# Altium schematic symbol library kmilo17pet-Maxim_Sensors.SchLib: 1172 symbols (part 17 of 61)
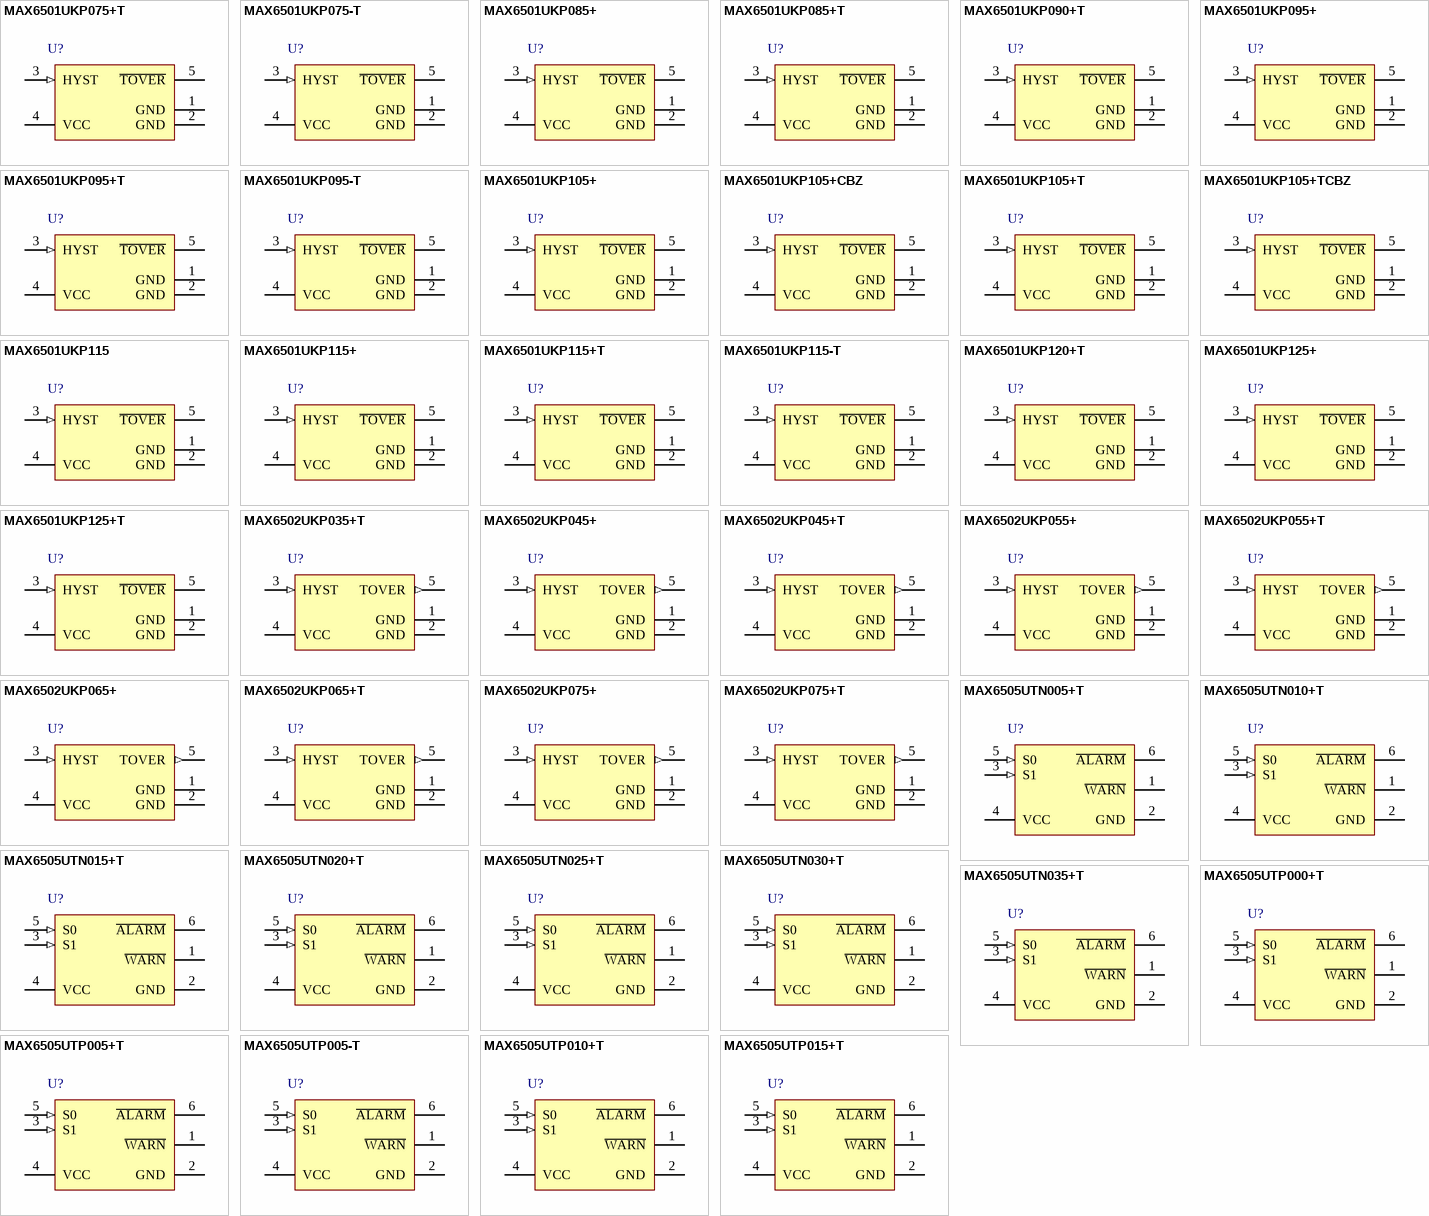
[diagram p49: symbols MAX6501UKP075+T to MAX6505UTP015+T]

## MAX6505UTN015+T
designator U?
Dual Trip Temperature Switch, -40 to 125 degC, 6-Pin SOT23 (U6SN+1), Pb-Free, Tape and Reel; Generic Part Number: MAX6505; PartNumber: MAX6505UTN015+T; Functions: Temperature Switch/Temperature Comparator; Interface: Logic; DatasheetVersion: Rev. 1; PackageVersion: Rev. N, 08/2012; PackageReference: U6SN+1; PackageDescription: 6-Pin Small-Outline Transistor Package, Body 1.625 x 2.9 mm, Pitch 0.95 mm; Supplier 1: Digi-Key; Supplier Part Number 1: MAX6505UTN015+T-ND; Supplier 2: Mouser; Supplier Part Number 2: 700-MAX6505UTN015T; Packing: Tape and Reel; Mounting Technology: Surface Mount; Code_JEDEC: MO-178; ComponentLink1Description: Manufacturer URL; ComponentLink1URL: http://www.maximintegrated.com/; ComponentLink2Description: Datasheet; ComponentLink2URL: http://datasheets.maximintegrated.com/en/ds/MAX6505; ComponentLink3Description: Package Specification; ComponentLink3URL: http://pdfserv.maximintegrated.com/package_dwgs/21-0058.PDF
footprint MAXM-U6SN+1_N (SOT23, 6-Leads, Body 2.9x1.625mm, Pitch 0.95mm, IPC Medium Density)
footprint MAXM-U6SN+1_L (SOT23, 6-Leads, Body 2.9x1.625mm, Pitch 0.95mm, IPC High Density)
footprint MAXM-U6SN+1_M (SOT23, 6-Leads, Body 2.9x1.625mm, Pitch 0.95mm, IPC Low Density)
pins: 1 ~{WARN} (oc) "Open-Drain Active-Low Warning Output. W\A\R\N\ goes low when the die temperature exceeds TWARN = TALARM - deltaTAW.", 2 GND (power) "Ground", 3 S1 (in) "Delta Temperature Select Input. Connect to VCC or GND to select the difference between TALARM and TWARN (Table 1 or see Electrical Characteristics).", 4 VCC (power) "Supply Voltage Input. Bypass VCC to GND with a 0.1uF ceramic capacitor.", 5 S0 (in) "Delta Temperature Select Input. Connect to VCC or GND to select the difference between TALARM and TWARN (Table 1 or see Electrical Characteristics).", 6 ~{ALARM} (oc) "Open-Drain Active-Low Alarm Output. A\L\A\R\M\ goes low when the die temperature exceeds the factory-set value of TALARM."

## MAX6505UTN020+T
designator U?
Dual Trip Temperature Switch, -40 to 125 degC, 6-Pin SOT23 (U6SN+1), Pb-Free, Tape and Reel; Generic Part Number: MAX6505; PartNumber: MAX6505UTN020+T; Functions: Temperature Switch/Temperature Comparator; Interface: Logic; DatasheetVersion: Rev. 1; PackageVersion: Rev. N, 08/2012; PackageReference: U6SN+1; PackageDescription: 6-Pin Small-Outline Transistor Package, Body 1.625 x 2.9 mm, Pitch 0.95 mm; Supplier 1: Digi-Key; Supplier Part Number 1: MAX6505UTN020+T-ND; Supplier 2: Mouser; Supplier Part Number 2: 700-MAX6505UTN020T; Packing: Tape and Reel; Mounting Technology: Surface Mount; Code_JEDEC: MO-178; ComponentLink1Description: Manufacturer URL; ComponentLink1URL: http://www.maximintegrated.com/; ComponentLink2Description: Datasheet; ComponentLink2URL: http://datasheets.maximintegrated.com/en/ds/MAX6505; ComponentLink3Description: Package Specification; ComponentLink3URL: http://pdfserv.maximintegrated.com/package_dwgs/21-0058.PDF
footprint MAXM-U6SN+1_N (SOT23, 6-Leads, Body 2.9x1.625mm, Pitch 0.95mm, IPC Medium Density)
footprint MAXM-U6SN+1_L (SOT23, 6-Leads, Body 2.9x1.625mm, Pitch 0.95mm, IPC High Density)
footprint MAXM-U6SN+1_M (SOT23, 6-Leads, Body 2.9x1.625mm, Pitch 0.95mm, IPC Low Density)
pins: 1 ~{WARN} (oc) "Open-Drain Active-Low Warning Output. W\A\R\N\ goes low when the die temperature exceeds TWARN = TALARM - deltaTAW.", 2 GND (power) "Ground", 3 S1 (in) "Delta Temperature Select Input. Connect to VCC or GND to select the difference between TALARM and TWARN (Table 1 or see Electrical Characteristics).", 4 VCC (power) "Supply Voltage Input. Bypass VCC to GND with a 0.1uF ceramic capacitor.", 5 S0 (in) "Delta Temperature Select Input. Connect to VCC or GND to select the difference between TALARM and TWARN (Table 1 or see Electrical Characteristics).", 6 ~{ALARM} (oc) "Open-Drain Active-Low Alarm Output. A\L\A\R\M\ goes low when the die temperature exceeds the factory-set value of TALARM."

## MAX6505UTN025+T
designator U?
Dual Trip Temperature Switch, -40 to 125 degC, 6-Pin SOT23 (U6SN+1), Pb-Free, Tape and Reel; Generic Part Number: MAX6505; PartNumber: MAX6505UTN025+T; Functions: Temperature Switch/Temperature Comparator; Interface: Logic; DatasheetVersion: Rev. 1; PackageVersion: Rev. N, 08/2012; PackageReference: U6SN+1; PackageDescription: 6-Pin Small-Outline Transistor Package, Body 1.625 x 2.9 mm, Pitch 0.95 mm; Supplier 1: Digi-Key; Supplier Part Number 1: MAX6505UTN025+T-ND; Supplier 2: Mouser; Supplier Part Number 2: 700-MAX6505UTN025T; Packing: Tape and Reel; Mounting Technology: Surface Mount; Code_JEDEC: MO-178; ComponentLink1Description: Manufacturer URL; ComponentLink1URL: http://www.maximintegrated.com/; ComponentLink2Description: Datasheet; ComponentLink2URL: http://datasheets.maximintegrated.com/en/ds/MAX6505; ComponentLink3Description: Package Specification; ComponentLink3URL: http://pdfserv.maximintegrated.com/package_dwgs/21-0058.PDF
footprint MAXM-U6SN+1_N (SOT23, 6-Leads, Body 2.9x1.625mm, Pitch 0.95mm, IPC Medium Density)
footprint MAXM-U6SN+1_L (SOT23, 6-Leads, Body 2.9x1.625mm, Pitch 0.95mm, IPC High Density)
footprint MAXM-U6SN+1_M (SOT23, 6-Leads, Body 2.9x1.625mm, Pitch 0.95mm, IPC Low Density)
pins: 1 ~{WARN} (oc) "Open-Drain Active-Low Warning Output. W\A\R\N\ goes low when the die temperature exceeds TWARN = TALARM - deltaTAW.", 2 GND (power) "Ground", 3 S1 (in) "Delta Temperature Select Input. Connect to VCC or GND to select the difference between TALARM and TWARN (Table 1 or see Electrical Characteristics).", 4 VCC (power) "Supply Voltage Input. Bypass VCC to GND with a 0.1uF ceramic capacitor.", 5 S0 (in) "Delta Temperature Select Input. Connect to VCC or GND to select the difference between TALARM and TWARN (Table 1 or see Electrical Characteristics).", 6 ~{ALARM} (oc) "Open-Drain Active-Low Alarm Output. A\L\A\R\M\ goes low when the die temperature exceeds the factory-set value of TALARM."

## MAX6505UTN030+T
designator U?
Dual Trip Temperature Switch, -40 to 125 degC, 6-Pin SOT23 (U6SN+1), Pb-Free, Tape and Reel; Generic Part Number: MAX6505; PartNumber: MAX6505UTN030+T; Functions: Temperature Switch/Temperature Comparator; Interface: Logic; DatasheetVersion: Rev. 1; PackageVersion: Rev. N, 08/2012; PackageReference: U6SN+1; PackageDescription: 6-Pin Small-Outline Transistor Package, Body 1.625 x 2.9 mm, Pitch 0.95 mm; Supplier 1: Digi-Key; Supplier Part Number 1: MAX6505UTN030+T-ND; Supplier 2: Mouser; Supplier Part Number 2: 700-MAX6505UTN030T; Packing: Tape and Reel; Mounting Technology: Surface Mount; Code_JEDEC: MO-178; ComponentLink1Description: Manufacturer URL; ComponentLink1URL: http://www.maximintegrated.com/; ComponentLink2Description: Datasheet; ComponentLink2URL: http://datasheets.maximintegrated.com/en/ds/MAX6505; ComponentLink3Description: Package Specification; ComponentLink3URL: http://pdfserv.maximintegrated.com/package_dwgs/21-0058.PDF
footprint MAXM-U6SN+1_N (SOT23, 6-Leads, Body 2.9x1.625mm, Pitch 0.95mm, IPC Medium Density)
footprint MAXM-U6SN+1_L (SOT23, 6-Leads, Body 2.9x1.625mm, Pitch 0.95mm, IPC High Density)
footprint MAXM-U6SN+1_M (SOT23, 6-Leads, Body 2.9x1.625mm, Pitch 0.95mm, IPC Low Density)
pins: 1 ~{WARN} (oc) "Open-Drain Active-Low Warning Output. W\A\R\N\ goes low when the die temperature exceeds TWARN = TALARM - deltaTAW.", 2 GND (power) "Ground", 3 S1 (in) "Delta Temperature Select Input. Connect to VCC or GND to select the difference between TALARM and TWARN (Table 1 or see Electrical Characteristics).", 4 VCC (power) "Supply Voltage Input. Bypass VCC to GND with a 0.1uF ceramic capacitor.", 5 S0 (in) "Delta Temperature Select Input. Connect to VCC or GND to select the difference between TALARM and TWARN (Table 1 or see Electrical Characteristics).", 6 ~{ALARM} (oc) "Open-Drain Active-Low Alarm Output. A\L\A\R\M\ goes low when the die temperature exceeds the factory-set value of TALARM."

## MAX6505UTN035+T
designator U?
Dual Trip Temperature Switch, -40 to 125 degC, 6-Pin SOT23 (U6SN+1), Pb-Free, Tape and Reel; Generic Part Number: MAX6505; PartNumber: MAX6505UTN035+T; Functions: Temperature Switch/Temperature Comparator; Interface: Logic; DatasheetVersion: Rev. 1; PackageVersion: Rev. N, 08/2012; PackageReference: U6SN+1; PackageDescription: 6-Pin Small-Outline Transistor Package, Body 1.625 x 2.9 mm, Pitch 0.95 mm; Supplier 1: Digi-Key; Supplier Part Number 1: MAX6505UTN035+T-ND; Supplier 2: Mouser; Supplier Part Number 2: 700-MAX6505UTN035T; Packing: Tape and Reel; Mounting Technology: Surface Mount; Code_JEDEC: MO-178; ComponentLink1Description: Manufacturer URL; ComponentLink1URL: http://www.maximintegrated.com/; ComponentLink2Description: Datasheet; ComponentLink2URL: http://datasheets.maximintegrated.com/en/ds/MAX6505; ComponentLink3Description: Package Specification; ComponentLink3URL: http://pdfserv.maximintegrated.com/package_dwgs/21-0058.PDF
footprint MAXM-U6SN+1_N (SOT23, 6-Leads, Body 2.9x1.625mm, Pitch 0.95mm, IPC Medium Density)
footprint MAXM-U6SN+1_L (SOT23, 6-Leads, Body 2.9x1.625mm, Pitch 0.95mm, IPC High Density)
footprint MAXM-U6SN+1_M (SOT23, 6-Leads, Body 2.9x1.625mm, Pitch 0.95mm, IPC Low Density)
pins: 1 ~{WARN} (oc) "Open-Drain Active-Low Warning Output. W\A\R\N\ goes low when the die temperature exceeds TWARN = TALARM - deltaTAW.", 2 GND (power) "Ground", 3 S1 (in) "Delta Temperature Select Input. Connect to VCC or GND to select the difference between TALARM and TWARN (Table 1 or see Electrical Characteristics).", 4 VCC (power) "Supply Voltage Input. Bypass VCC to GND with a 0.1uF ceramic capacitor.", 5 S0 (in) "Delta Temperature Select Input. Connect to VCC or GND to select the difference between TALARM and TWARN (Table 1 or see Electrical Characteristics).", 6 ~{ALARM} (oc) "Open-Drain Active-Low Alarm Output. A\L\A\R\M\ goes low when the die temperature exceeds the factory-set value of TALARM."

## MAX6505UTP000+T
designator U?
Dual Trip Temperature Switch, -40 to 125 degC, 6-Pin SOT23 (U6SN+1), Pb-Free, Tape and Reel; Generic Part Number: MAX6505; PartNumber: MAX6505UTP000+T; Functions: Temperature Switch/Temperature Comparator; Interface: Logic; DatasheetVersion: Rev. 1; PackageVersion: Rev. N, 08/2012; PackageReference: U6SN+1; PackageDescription: 6-Pin Small-Outline Transistor Package, Body 1.625 x 2.9 mm, Pitch 0.95 mm; Supplier 1: Digi-Key; Supplier Part Number 1: MAX6505UTP000+T-ND; Supplier 2: Mouser; Supplier Part Number 2: 700-MAX6505UTP000T; Packing: Tape and Reel; Mounting Technology: Surface Mount; Code_JEDEC: MO-178; ComponentLink1Description: Manufacturer URL; ComponentLink1URL: http://www.maximintegrated.com/; ComponentLink2Description: Datasheet; ComponentLink2URL: http://datasheets.maximintegrated.com/en/ds/MAX6505; ComponentLink3Description: Package Specification; ComponentLink3URL: http://pdfserv.maximintegrated.com/package_dwgs/21-0058.PDF
footprint MAXM-U6SN+1_N (SOT23, 6-Leads, Body 2.9x1.625mm, Pitch 0.95mm, IPC Medium Density)
footprint MAXM-U6SN+1_L (SOT23, 6-Leads, Body 2.9x1.625mm, Pitch 0.95mm, IPC High Density)
footprint MAXM-U6SN+1_M (SOT23, 6-Leads, Body 2.9x1.625mm, Pitch 0.95mm, IPC Low Density)
pins: 1 ~{WARN} (oc) "Open-Drain Active-Low Warning Output. W\A\R\N\ goes low when the die temperature exceeds TWARN = TALARM - deltaTAW.", 2 GND (power) "Ground", 3 S1 (in) "Delta Temperature Select Input. Connect to VCC or GND to select the difference between TALARM and TWARN (Table 1 or see Electrical Characteristics).", 4 VCC (power) "Supply Voltage Input. Bypass VCC to GND with a 0.1uF ceramic capacitor.", 5 S0 (in) "Delta Temperature Select Input. Connect to VCC or GND to select the difference between TALARM and TWARN (Table 1 or see Electrical Characteristics).", 6 ~{ALARM} (oc) "Open-Drain Active-Low Alarm Output. A\L\A\R\M\ goes low when the die temperature exceeds the factory-set value of TALARM."

## MAX6505UTP005+T
designator U?
Dual Trip Temperature Switch, -40 to 125 degC, 6-Pin SOT23 (U6SN+1), Pb-Free, Tape and Reel; Generic Part Number: MAX6505; PartNumber: MAX6505UTP005+T; Functions: Temperature Switch/Temperature Comparator; Interface: Logic; DatasheetVersion: Rev. 1; PackageVersion: Rev. N, 08/2012; PackageReference: U6SN+1; PackageDescription: 6-Pin Small-Outline Transistor Package, Body 1.625 x 2.9 mm, Pitch 0.95 mm; Supplier 1: Digi-Key; Supplier Part Number 1: MAX6505UTP005+T-ND; Supplier 2: Mouser; Supplier Part Number 2: 700-MAX6505UTP005T; Packing: Tape and Reel; Mounting Technology: Surface Mount; Code_JEDEC: MO-178; ComponentLink1Description: Manufacturer URL; ComponentLink1URL: http://www.maximintegrated.com/; ComponentLink2Description: Datasheet; ComponentLink2URL: http://datasheets.maximintegrated.com/en/ds/MAX6505; ComponentLink3Description: Package Specification; ComponentLink3URL: http://pdfserv.maximintegrated.com/package_dwgs/21-0058.PDF
footprint MAXM-U6SN+1_N (SOT23, 6-Leads, Body 2.9x1.625mm, Pitch 0.95mm, IPC Medium Density)
footprint MAXM-U6SN+1_L (SOT23, 6-Leads, Body 2.9x1.625mm, Pitch 0.95mm, IPC High Density)
footprint MAXM-U6SN+1_M (SOT23, 6-Leads, Body 2.9x1.625mm, Pitch 0.95mm, IPC Low Density)
pins: 1 ~{WARN} (oc) "Open-Drain Active-Low Warning Output. W\A\R\N\ goes low when the die temperature exceeds TWARN = TALARM - deltaTAW.", 2 GND (power) "Ground", 3 S1 (in) "Delta Temperature Select Input. Connect to VCC or GND to select the difference between TALARM and TWARN (Table 1 or see Electrical Characteristics).", 4 VCC (power) "Supply Voltage Input. Bypass VCC to GND with a 0.1uF ceramic capacitor.", 5 S0 (in) "Delta Temperature Select Input. Connect to VCC or GND to select the difference between TALARM and TWARN (Table 1 or see Electrical Characteristics).", 6 ~{ALARM} (oc) "Open-Drain Active-Low Alarm Output. A\L\A\R\M\ goes low when the die temperature exceeds the factory-set value of TALARM."

## MAX6505UTP005-T
designator U?
Dual Trip Temperature Switch, -40 to 125 degC, 6-Pin SOT23 (U6SN-1), Tape and Reel; Generic Part Number: MAX6505; PartNumber: MAX6505UTP005-T; Functions: Temperature Switch/Temperature Comparator; Interface: Logic; DatasheetVersion: Rev. 1; PackageVersion: Rev. N, 08/2012; PackageReference: U6SN-1; PackageDescription: 6-Pin Small-Outline Transistor Package, Body 1.625 x 2.9 mm, Pitch 0.95 mm; Supplier 1: Mouser; Supplier Part Number 1: N/A; Packing: Tape and Reel; Mounting Technology: Surface Mount; Code_JEDEC: MO-178; ComponentLink1Description: Manufacturer URL; ComponentLink1URL: http://www.maximintegrated.com/; ComponentLink2Description: Datasheet; ComponentLink2URL: http://datasheets.maximintegrated.com/en/ds/MAX6505; ComponentLink3Description: Package Specification; ComponentLink3URL: http://pdfserv.maximintegrated.com/package_dwgs/21-0058.PDF
footprint MAXM-U6SN-1_N (SOT23, 6-Leads, Body 2.9x1.625mm, Pitch 0.95mm, IPC Medium Density)
footprint MAXM-U6SN-1_L (SOT23, 6-Leads, Body 2.9x1.625mm, Pitch 0.95mm, IPC High Density)
footprint MAXM-U6SN-1_M (SOT23, 6-Leads, Body 2.9x1.625mm, Pitch 0.95mm, IPC Low Density)
pins: 1 ~{WARN} (oc) "Open-Drain Active-Low Warning Output. W\A\R\N\ goes low when the die temperature exceeds TWARN = TALARM - deltaTAW.", 2 GND (power) "Ground", 3 S1 (in) "Delta Temperature Select Input. Connect to VCC or GND to select the difference between TALARM and TWARN (Table 1 or see Electrical Characteristics).", 4 VCC (power) "Supply Voltage Input. Bypass VCC to GND with a 0.1uF ceramic capacitor.", 5 S0 (in) "Delta Temperature Select Input. Connect to VCC or GND to select the difference between TALARM and TWARN (Table 1 or see Electrical Characteristics).", 6 ~{ALARM} (oc) "Open-Drain Active-Low Alarm Output. A\L\A\R\M\ goes low when the die temperature exceeds the factory-set value of TALARM."

## MAX6505UTP010+T
designator U?
Dual Trip Temperature Switch, -40 to 125 degC, 6-Pin SOT23 (U6SN+1), Pb-Free, Tape and Reel; Generic Part Number: MAX6505; PartNumber: MAX6505UTP010+T; Functions: Temperature Switch/Temperature Comparator; Interface: Logic; DatasheetVersion: Rev. 1; PackageVersion: Rev. N, 08/2012; PackageReference: U6SN+1; PackageDescription: 6-Pin Small-Outline Transistor Package, Body 1.625 x 2.9 mm, Pitch 0.95 mm; Supplier 1: Digi-Key; Supplier Part Number 1: MAX6505UTP010+T-ND; Supplier 2: Mouser; Supplier Part Number 2: 700-MAX6505UTP010T; Packing: Tape and Reel; Mounting Technology: Surface Mount; Code_JEDEC: MO-178; ComponentLink1Description: Manufacturer URL; ComponentLink1URL: http://www.maximintegrated.com/; ComponentLink2Description: Datasheet; ComponentLink2URL: http://datasheets.maximintegrated.com/en/ds/MAX6505; ComponentLink3Description: Package Specification; ComponentLink3URL: http://pdfserv.maximintegrated.com/package_dwgs/21-0058.PDF
footprint MAXM-U6SN+1_N (SOT23, 6-Leads, Body 2.9x1.625mm, Pitch 0.95mm, IPC Medium Density)
footprint MAXM-U6SN+1_L (SOT23, 6-Leads, Body 2.9x1.625mm, Pitch 0.95mm, IPC High Density)
footprint MAXM-U6SN+1_M (SOT23, 6-Leads, Body 2.9x1.625mm, Pitch 0.95mm, IPC Low Density)
pins: 1 ~{WARN} (oc) "Open-Drain Active-Low Warning Output. W\A\R\N\ goes low when the die temperature exceeds TWARN = TALARM - deltaTAW.", 2 GND (power) "Ground", 3 S1 (in) "Delta Temperature Select Input. Connect to VCC or GND to select the difference between TALARM and TWARN (Table 1 or see Electrical Characteristics).", 4 VCC (power) "Supply Voltage Input. Bypass VCC to GND with a 0.1uF ceramic capacitor.", 5 S0 (in) "Delta Temperature Select Input. Connect to VCC or GND to select the difference between TALARM and TWARN (Table 1 or see Electrical Characteristics).", 6 ~{ALARM} (oc) "Open-Drain Active-Low Alarm Output. A\L\A\R\M\ goes low when the die temperature exceeds the factory-set value of TALARM."

## MAX6505UTP015+T
designator U?
Dual Trip Temperature Switch, -40 to 125 degC, 6-Pin SOT23 (U6SN+1), Pb-Free, Tape and Reel; Generic Part Number: MAX6505; PartNumber: MAX6505UTP015+T; Functions: Temperature Switch/Temperature Comparator; Interface: Logic; DatasheetVersion: Rev. 1; PackageVersion: Rev. N, 08/2012; PackageReference: U6SN+1; PackageDescription: 6-Pin Small-Outline Transistor Package, Body 1.625 x 2.9 mm, Pitch 0.95 mm; Supplier 1: Digi-Key; Supplier Part Number 1: MAX6505UTP015+T-ND; Supplier 2: Mouser; Supplier Part Number 2: 700-MAX6505UTP015T; Packing: Tape and Reel; Mounting Technology: Surface Mount; Code_JEDEC: MO-178; ComponentLink1Description: Manufacturer URL; ComponentLink1URL: http://www.maximintegrated.com/; ComponentLink2Description: Datasheet; ComponentLink2URL: http://datasheets.maximintegrated.com/en/ds/MAX6505; ComponentLink3Description: Package Specification; ComponentLink3URL: http://pdfserv.maximintegrated.com/package_dwgs/21-0058.PDF
footprint MAXM-U6SN+1_N (SOT23, 6-Leads, Body 2.9x1.625mm, Pitch 0.95mm, IPC Medium Density)
footprint MAXM-U6SN+1_L (SOT23, 6-Leads, Body 2.9x1.625mm, Pitch 0.95mm, IPC High Density)
footprint MAXM-U6SN+1_M (SOT23, 6-Leads, Body 2.9x1.625mm, Pitch 0.95mm, IPC Low Density)
pins: 1 ~{WARN} (oc) "Open-Drain Active-Low Warning Output. W\A\R\N\ goes low when the die temperature exceeds TWARN = TALARM - deltaTAW.", 2 GND (power) "Ground", 3 S1 (in) "Delta Temperature Select Input. Connect to VCC or GND to select the difference between TALARM and TWARN (Table 1 or see Electrical Characteristics).", 4 VCC (power) "Supply Voltage Input. Bypass VCC to GND with a 0.1uF ceramic capacitor.", 5 S0 (in) "Delta Temperature Select Input. Connect to VCC or GND to select the difference between TALARM and TWARN (Table 1 or see Electrical Characteristics).", 6 ~{ALARM} (oc) "Open-Drain Active-Low Alarm Output. A\L\A\R\M\ goes low when the die temperature exceeds the factory-set value of TALARM."

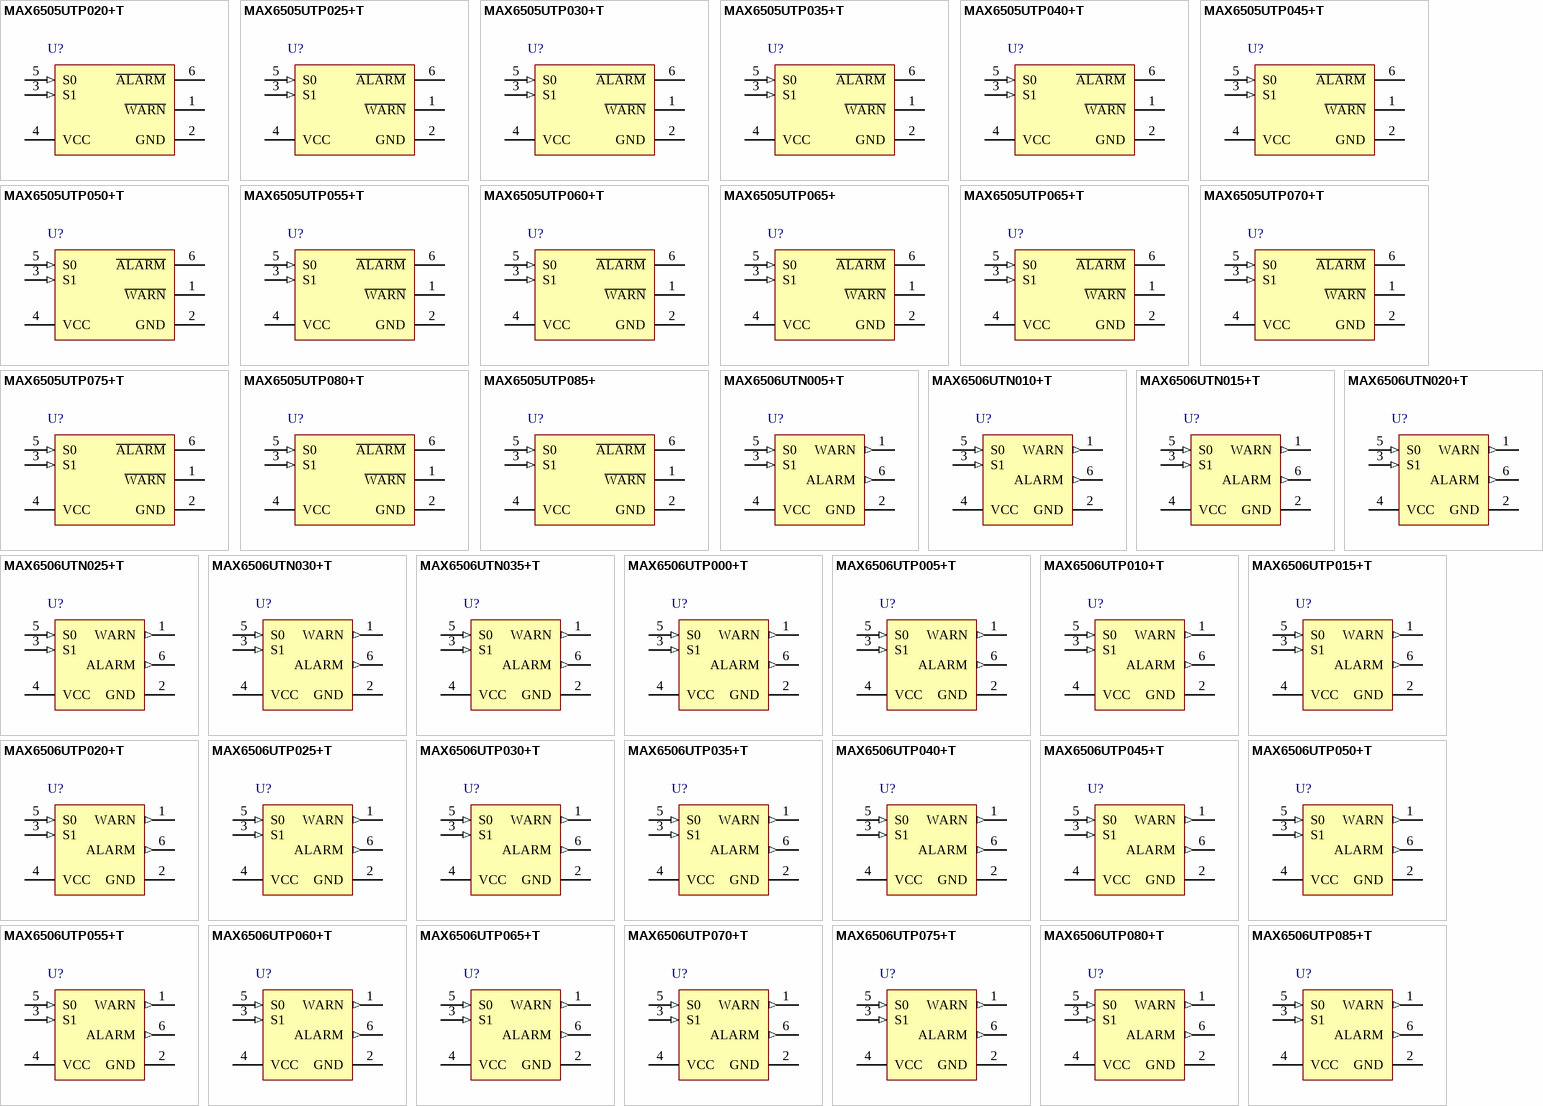
[diagram p10: symbols MAX6505UTP020+T to MAX6506UTP085+T]

## MAX6505UTP020+T
designator U?
Dual Trip Temperature Switch, -40 to 125 degC, 6-Pin SOT23 (U6SN+1), Pb-Free, Tape and Reel; Generic Part Number: MAX6505; PartNumber: MAX6505UTP020+T; Functions: Temperature Switch/Temperature Comparator; Interface: Logic; DatasheetVersion: Rev. 1; PackageVersion: Rev. N, 08/2012; PackageReference: U6SN+1; PackageDescription: 6-Pin Small-Outline Transistor Package, Body 1.625 x 2.9 mm, Pitch 0.95 mm; Supplier 1: Digi-Key; Supplier Part Number 1: MAX6505UTP020+T-ND; Supplier 2: Mouser; Supplier Part Number 2: 700-MAX6505UTP020T; Packing: Tape and Reel; Mounting Technology: Surface Mount; Code_JEDEC: MO-178; ComponentLink1Description: Manufacturer URL; ComponentLink1URL: http://www.maximintegrated.com/; ComponentLink2Description: Datasheet; ComponentLink2URL: http://datasheets.maximintegrated.com/en/ds/MAX6505; ComponentLink3Description: Package Specification; ComponentLink3URL: http://pdfserv.maximintegrated.com/package_dwgs/21-0058.PDF
footprint MAXM-U6SN+1_N (SOT23, 6-Leads, Body 2.9x1.625mm, Pitch 0.95mm, IPC Medium Density)
footprint MAXM-U6SN+1_L (SOT23, 6-Leads, Body 2.9x1.625mm, Pitch 0.95mm, IPC High Density)
footprint MAXM-U6SN+1_M (SOT23, 6-Leads, Body 2.9x1.625mm, Pitch 0.95mm, IPC Low Density)
pins: 1 ~{WARN} (oc) "Open-Drain Active-Low Warning Output. W\A\R\N\ goes low when the die temperature exceeds TWARN = TALARM - deltaTAW.", 2 GND (power) "Ground", 3 S1 (in) "Delta Temperature Select Input. Connect to VCC or GND to select the difference between TALARM and TWARN (Table 1 or see Electrical Characteristics).", 4 VCC (power) "Supply Voltage Input. Bypass VCC to GND with a 0.1uF ceramic capacitor.", 5 S0 (in) "Delta Temperature Select Input. Connect to VCC or GND to select the difference between TALARM and TWARN (Table 1 or see Electrical Characteristics).", 6 ~{ALARM} (oc) "Open-Drain Active-Low Alarm Output. A\L\A\R\M\ goes low when the die temperature exceeds the factory-set value of TALARM."

## MAX6505UTP025+T
designator U?
Dual Trip Temperature Switch, -40 to 125 degC, 6-Pin SOT23 (U6SN+1), Pb-Free, Tape and Reel; Generic Part Number: MAX6505; PartNumber: MAX6505UTP025+T; Functions: Temperature Switch/Temperature Comparator; Interface: Logic; DatasheetVersion: Rev. 1; PackageVersion: Rev. N, 08/2012; PackageReference: U6SN+1; PackageDescription: 6-Pin Small-Outline Transistor Package, Body 1.625 x 2.9 mm, Pitch 0.95 mm; Supplier 1: Digi-Key; Supplier Part Number 1: MAX6505UTP025+T-ND; Supplier 2: Mouser; Supplier Part Number 2: 700-MAX6505UTP025T; Packing: Tape and Reel; Mounting Technology: Surface Mount; Code_JEDEC: MO-178; ComponentLink1Description: Manufacturer URL; ComponentLink1URL: http://www.maximintegrated.com/; ComponentLink2Description: Datasheet; ComponentLink2URL: http://datasheets.maximintegrated.com/en/ds/MAX6505; ComponentLink3Description: Package Specification; ComponentLink3URL: http://pdfserv.maximintegrated.com/package_dwgs/21-0058.PDF
footprint MAXM-U6SN+1_N (SOT23, 6-Leads, Body 2.9x1.625mm, Pitch 0.95mm, IPC Medium Density)
footprint MAXM-U6SN+1_L (SOT23, 6-Leads, Body 2.9x1.625mm, Pitch 0.95mm, IPC High Density)
footprint MAXM-U6SN+1_M (SOT23, 6-Leads, Body 2.9x1.625mm, Pitch 0.95mm, IPC Low Density)
pins: 1 ~{WARN} (oc) "Open-Drain Active-Low Warning Output. W\A\R\N\ goes low when the die temperature exceeds TWARN = TALARM - deltaTAW.", 2 GND (power) "Ground", 3 S1 (in) "Delta Temperature Select Input. Connect to VCC or GND to select the difference between TALARM and TWARN (Table 1 or see Electrical Characteristics).", 4 VCC (power) "Supply Voltage Input. Bypass VCC to GND with a 0.1uF ceramic capacitor.", 5 S0 (in) "Delta Temperature Select Input. Connect to VCC or GND to select the difference between TALARM and TWARN (Table 1 or see Electrical Characteristics).", 6 ~{ALARM} (oc) "Open-Drain Active-Low Alarm Output. A\L\A\R\M\ goes low when the die temperature exceeds the factory-set value of TALARM."

## MAX6505UTP030+T
designator U?
Dual Trip Temperature Switch, -40 to 125 degC, 6-Pin SOT23 (U6SN+1), Pb-Free, Tape and Reel; Generic Part Number: MAX6505; PartNumber: MAX6505UTP030+T; Functions: Temperature Switch/Temperature Comparator; Interface: Logic; DatasheetVersion: Rev. 1; PackageVersion: Rev. N, 08/2012; PackageReference: U6SN+1; PackageDescription: 6-Pin Small-Outline Transistor Package, Body 1.625 x 2.9 mm, Pitch 0.95 mm; Supplier 1: Digi-Key; Supplier Part Number 1: MAX6505UTP030+T-ND; Supplier 2: Mouser; Supplier Part Number 2: 700-MAX6505UTP030T; Packing: Tape and Reel; Mounting Technology: Surface Mount; Code_JEDEC: MO-178; ComponentLink1Description: Manufacturer URL; ComponentLink1URL: http://www.maximintegrated.com/; ComponentLink2Description: Datasheet; ComponentLink2URL: http://datasheets.maximintegrated.com/en/ds/MAX6505; ComponentLink3Description: Package Specification; ComponentLink3URL: http://pdfserv.maximintegrated.com/package_dwgs/21-0058.PDF
footprint MAXM-U6SN+1_N (SOT23, 6-Leads, Body 2.9x1.625mm, Pitch 0.95mm, IPC Medium Density)
footprint MAXM-U6SN+1_L (SOT23, 6-Leads, Body 2.9x1.625mm, Pitch 0.95mm, IPC High Density)
footprint MAXM-U6SN+1_M (SOT23, 6-Leads, Body 2.9x1.625mm, Pitch 0.95mm, IPC Low Density)
pins: 1 ~{WARN} (oc) "Open-Drain Active-Low Warning Output. W\A\R\N\ goes low when the die temperature exceeds TWARN = TALARM - deltaTAW.", 2 GND (power) "Ground", 3 S1 (in) "Delta Temperature Select Input. Connect to VCC or GND to select the difference between TALARM and TWARN (Table 1 or see Electrical Characteristics).", 4 VCC (power) "Supply Voltage Input. Bypass VCC to GND with a 0.1uF ceramic capacitor.", 5 S0 (in) "Delta Temperature Select Input. Connect to VCC or GND to select the difference between TALARM and TWARN (Table 1 or see Electrical Characteristics).", 6 ~{ALARM} (oc) "Open-Drain Active-Low Alarm Output. A\L\A\R\M\ goes low when the die temperature exceeds the factory-set value of TALARM."

## MAX6505UTP035+T
designator U?
Dual Trip Temperature Switch, -40 to 125 degC, 6-Pin SOT23 (U6SN+1), Pb-Free, Tape and Reel; Generic Part Number: MAX6505; PartNumber: MAX6505UTP035+T; Functions: Temperature Switch/Temperature Comparator; Interface: Logic; DatasheetVersion: Rev. 1; PackageVersion: Rev. N, 08/2012; PackageReference: U6SN+1; PackageDescription: 6-Pin Small-Outline Transistor Package, Body 1.625 x 2.9 mm, Pitch 0.95 mm; Supplier 1: Digi-Key; Supplier Part Number 1: MAX6505UTP035+T-ND; Supplier 2: Mouser; Supplier Part Number 2: 700-MAX6505UTP035T; Packing: Tape and Reel; Mounting Technology: Surface Mount; Code_JEDEC: MO-178; ComponentLink1Description: Manufacturer URL; ComponentLink1URL: http://www.maximintegrated.com/; ComponentLink2Description: Datasheet; ComponentLink2URL: http://datasheets.maximintegrated.com/en/ds/MAX6505; ComponentLink3Description: Package Specification; ComponentLink3URL: http://pdfserv.maximintegrated.com/package_dwgs/21-0058.PDF
footprint MAXM-U6SN+1_N (SOT23, 6-Leads, Body 2.9x1.625mm, Pitch 0.95mm, IPC Medium Density)
footprint MAXM-U6SN+1_L (SOT23, 6-Leads, Body 2.9x1.625mm, Pitch 0.95mm, IPC High Density)
footprint MAXM-U6SN+1_M (SOT23, 6-Leads, Body 2.9x1.625mm, Pitch 0.95mm, IPC Low Density)
pins: 1 ~{WARN} (oc) "Open-Drain Active-Low Warning Output. W\A\R\N\ goes low when the die temperature exceeds TWARN = TALARM - deltaTAW.", 2 GND (power) "Ground", 3 S1 (in) "Delta Temperature Select Input. Connect to VCC or GND to select the difference between TALARM and TWARN (Table 1 or see Electrical Characteristics).", 4 VCC (power) "Supply Voltage Input. Bypass VCC to GND with a 0.1uF ceramic capacitor.", 5 S0 (in) "Delta Temperature Select Input. Connect to VCC or GND to select the difference between TALARM and TWARN (Table 1 or see Electrical Characteristics).", 6 ~{ALARM} (oc) "Open-Drain Active-Low Alarm Output. A\L\A\R\M\ goes low when the die temperature exceeds the factory-set value of TALARM."

## MAX6505UTP040+T
designator U?
Dual Trip Temperature Switch, -40 to 125 degC, 6-Pin SOT23 (U6SN+1), Pb-Free, Tape and Reel; Generic Part Number: MAX6505; PartNumber: MAX6505UTP040+T; Functions: Temperature Switch/Temperature Comparator; Interface: Logic; DatasheetVersion: Rev. 1; PackageVersion: Rev. N, 08/2012; PackageReference: U6SN+1; PackageDescription: 6-Pin Small-Outline Transistor Package, Body 1.625 x 2.9 mm, Pitch 0.95 mm; Supplier 1: Digi-Key; Supplier Part Number 1: MAX6505UTP040+T-ND; Supplier 2: Mouser; Supplier Part Number 2: 700-MAX6505UTP040T; Packing: Tape and Reel; Mounting Technology: Surface Mount; Code_JEDEC: MO-178; ComponentLink1Description: Manufacturer URL; ComponentLink1URL: http://www.maximintegrated.com/; ComponentLink2Description: Datasheet; ComponentLink2URL: http://datasheets.maximintegrated.com/en/ds/MAX6505; ComponentLink3Description: Package Specification; ComponentLink3URL: http://pdfserv.maximintegrated.com/package_dwgs/21-0058.PDF
footprint MAXM-U6SN+1_N (SOT23, 6-Leads, Body 2.9x1.625mm, Pitch 0.95mm, IPC Medium Density)
footprint MAXM-U6SN+1_L (SOT23, 6-Leads, Body 2.9x1.625mm, Pitch 0.95mm, IPC High Density)
footprint MAXM-U6SN+1_M (SOT23, 6-Leads, Body 2.9x1.625mm, Pitch 0.95mm, IPC Low Density)
pins: 1 ~{WARN} (oc) "Open-Drain Active-Low Warning Output. W\A\R\N\ goes low when the die temperature exceeds TWARN = TALARM - deltaTAW.", 2 GND (power) "Ground", 3 S1 (in) "Delta Temperature Select Input. Connect to VCC or GND to select the difference between TALARM and TWARN (Table 1 or see Electrical Characteristics).", 4 VCC (power) "Supply Voltage Input. Bypass VCC to GND with a 0.1uF ceramic capacitor.", 5 S0 (in) "Delta Temperature Select Input. Connect to VCC or GND to select the difference between TALARM and TWARN (Table 1 or see Electrical Characteristics).", 6 ~{ALARM} (oc) "Open-Drain Active-Low Alarm Output. A\L\A\R\M\ goes low when the die temperature exceeds the factory-set value of TALARM."

## MAX6505UTP045+T
designator U?
Dual Trip Temperature Switch, -40 to 125 degC, 6-Pin SOT23 (U6SN+1), Pb-Free, Tape and Reel; Generic Part Number: MAX6505; PartNumber: MAX6505UTP045+T; Functions: Temperature Switch/Temperature Comparator; Interface: Logic; DatasheetVersion: Rev. 1; PackageVersion: Rev. N, 08/2012; PackageReference: U6SN+1; PackageDescription: 6-Pin Small-Outline Transistor Package, Body 1.625 x 2.9 mm, Pitch 0.95 mm; Supplier 1: Digi-Key; Supplier Part Number 1: MAX6505UTP045+T-ND; Supplier 2: Mouser; Supplier Part Number 2: 700-MAX6505UTP045T; Packing: Tape and Reel; Mounting Technology: Surface Mount; Code_JEDEC: MO-178; ComponentLink1Description: Manufacturer URL; ComponentLink1URL: http://www.maximintegrated.com/; ComponentLink2Description: Datasheet; ComponentLink2URL: http://datasheets.maximintegrated.com/en/ds/MAX6505; ComponentLink3Description: Package Specification; ComponentLink3URL: http://pdfserv.maximintegrated.com/package_dwgs/21-0058.PDF
footprint MAXM-U6SN+1_N (SOT23, 6-Leads, Body 2.9x1.625mm, Pitch 0.95mm, IPC Medium Density)
footprint MAXM-U6SN+1_L (SOT23, 6-Leads, Body 2.9x1.625mm, Pitch 0.95mm, IPC High Density)
footprint MAXM-U6SN+1_M (SOT23, 6-Leads, Body 2.9x1.625mm, Pitch 0.95mm, IPC Low Density)
pins: 1 ~{WARN} (oc) "Open-Drain Active-Low Warning Output. W\A\R\N\ goes low when the die temperature exceeds TWARN = TALARM - deltaTAW.", 2 GND (power) "Ground", 3 S1 (in) "Delta Temperature Select Input. Connect to VCC or GND to select the difference between TALARM and TWARN (Table 1 or see Electrical Characteristics).", 4 VCC (power) "Supply Voltage Input. Bypass VCC to GND with a 0.1uF ceramic capacitor.", 5 S0 (in) "Delta Temperature Select Input. Connect to VCC or GND to select the difference between TALARM and TWARN (Table 1 or see Electrical Characteristics).", 6 ~{ALARM} (oc) "Open-Drain Active-Low Alarm Output. A\L\A\R\M\ goes low when the die temperature exceeds the factory-set value of TALARM."

## MAX6505UTP050+T
designator U?
Dual Trip Temperature Switch, -40 to 125 degC, 6-Pin SOT23 (U6SN+1), Pb-Free, Tape and Reel; Generic Part Number: MAX6505; PartNumber: MAX6505UTP050+T; Functions: Temperature Switch/Temperature Comparator; Interface: Logic; DatasheetVersion: Rev. 1; PackageVersion: Rev. N, 08/2012; PackageReference: U6SN+1; PackageDescription: 6-Pin Small-Outline Transistor Package, Body 1.625 x 2.9 mm, Pitch 0.95 mm; Supplier 1: Digi-Key; Supplier Part Number 1: MAX6505UTP050+T-ND; Supplier 2: Mouser; Supplier Part Number 2: 700-MAX6505UTP050T; Packing: Tape and Reel; Mounting Technology: Surface Mount; Code_JEDEC: MO-178; ComponentLink1Description: Manufacturer URL; ComponentLink1URL: http://www.maximintegrated.com/; ComponentLink2Description: Datasheet; ComponentLink2URL: http://datasheets.maximintegrated.com/en/ds/MAX6505; ComponentLink3Description: Package Specification; ComponentLink3URL: http://pdfserv.maximintegrated.com/package_dwgs/21-0058.PDF
footprint MAXM-U6SN+1_N (SOT23, 6-Leads, Body 2.9x1.625mm, Pitch 0.95mm, IPC Medium Density)
footprint MAXM-U6SN+1_L (SOT23, 6-Leads, Body 2.9x1.625mm, Pitch 0.95mm, IPC High Density)
footprint MAXM-U6SN+1_M (SOT23, 6-Leads, Body 2.9x1.625mm, Pitch 0.95mm, IPC Low Density)
pins: 1 ~{WARN} (oc) "Open-Drain Active-Low Warning Output. W\A\R\N\ goes low when the die temperature exceeds TWARN = TALARM - deltaTAW.", 2 GND (power) "Ground", 3 S1 (in) "Delta Temperature Select Input. Connect to VCC or GND to select the difference between TALARM and TWARN (Table 1 or see Electrical Characteristics).", 4 VCC (power) "Supply Voltage Input. Bypass VCC to GND with a 0.1uF ceramic capacitor.", 5 S0 (in) "Delta Temperature Select Input. Connect to VCC or GND to select the difference between TALARM and TWARN (Table 1 or see Electrical Characteristics).", 6 ~{ALARM} (oc) "Open-Drain Active-Low Alarm Output. A\L\A\R\M\ goes low when the die temperature exceeds the factory-set value of TALARM."

## MAX6505UTP055+T
designator U?
Dual Trip Temperature Switch, -40 to 125 degC, 6-Pin SOT23 (U6SN+1), Pb-Free, Tape and Reel; Generic Part Number: MAX6505; PartNumber: MAX6505UTP055+T; Functions: Temperature Switch/Temperature Comparator; Interface: Logic; DatasheetVersion: Rev. 1; PackageVersion: Rev. N, 08/2012; PackageReference: U6SN+1; PackageDescription: 6-Pin Small-Outline Transistor Package, Body 1.625 x 2.9 mm, Pitch 0.95 mm; Supplier 1: Digi-Key; Supplier Part Number 1: MAX6505UTP055+T-ND; Supplier 2: Mouser; Supplier Part Number 2: 700-MAX6505UTP055T; Packing: Tape and Reel; Mounting Technology: Surface Mount; Code_JEDEC: MO-178; ComponentLink1Description: Manufacturer URL; ComponentLink1URL: http://www.maximintegrated.com/; ComponentLink2Description: Datasheet; ComponentLink2URL: http://datasheets.maximintegrated.com/en/ds/MAX6505; ComponentLink3Description: Package Specification; ComponentLink3URL: http://pdfserv.maximintegrated.com/package_dwgs/21-0058.PDF
footprint MAXM-U6SN+1_N (SOT23, 6-Leads, Body 2.9x1.625mm, Pitch 0.95mm, IPC Medium Density)
footprint MAXM-U6SN+1_L (SOT23, 6-Leads, Body 2.9x1.625mm, Pitch 0.95mm, IPC High Density)
footprint MAXM-U6SN+1_M (SOT23, 6-Leads, Body 2.9x1.625mm, Pitch 0.95mm, IPC Low Density)
pins: 1 ~{WARN} (oc) "Open-Drain Active-Low Warning Output. W\A\R\N\ goes low when the die temperature exceeds TWARN = TALARM - deltaTAW.", 2 GND (power) "Ground", 3 S1 (in) "Delta Temperature Select Input. Connect to VCC or GND to select the difference between TALARM and TWARN (Table 1 or see Electrical Characteristics).", 4 VCC (power) "Supply Voltage Input. Bypass VCC to GND with a 0.1uF ceramic capacitor.", 5 S0 (in) "Delta Temperature Select Input. Connect to VCC or GND to select the difference between TALARM and TWARN (Table 1 or see Electrical Characteristics).", 6 ~{ALARM} (oc) "Open-Drain Active-Low Alarm Output. A\L\A\R\M\ goes low when the die temperature exceeds the factory-set value of TALARM."

## MAX6505UTP060+T
designator U?
Dual Trip Temperature Switch, -40 to 125 degC, 6-Pin SOT23 (U6SN+1), Pb-Free, Tape and Reel; Generic Part Number: MAX6505; PartNumber: MAX6505UTP060+T; Functions: Temperature Switch/Temperature Comparator; Interface: Logic; DatasheetVersion: Rev. 1; PackageVersion: Rev. N, 08/2012; PackageReference: U6SN+1; PackageDescription: 6-Pin Small-Outline Transistor Package, Body 1.625 x 2.9 mm, Pitch 0.95 mm; Supplier 1: Digi-Key; Supplier Part Number 1: MAX6505UTP060+T-ND; Supplier 2: Mouser; Supplier Part Number 2: 700-MAX6505UTP060T; Packing: Tape and Reel; Mounting Technology: Surface Mount; Code_JEDEC: MO-178; ComponentLink1Description: Manufacturer URL; ComponentLink1URL: http://www.maximintegrated.com/; ComponentLink2Description: Datasheet; ComponentLink2URL: http://datasheets.maximintegrated.com/en/ds/MAX6505; ComponentLink3Description: Package Specification; ComponentLink3URL: http://pdfserv.maximintegrated.com/package_dwgs/21-0058.PDF
footprint MAXM-U6SN+1_N (SOT23, 6-Leads, Body 2.9x1.625mm, Pitch 0.95mm, IPC Medium Density)
footprint MAXM-U6SN+1_L (SOT23, 6-Leads, Body 2.9x1.625mm, Pitch 0.95mm, IPC High Density)
footprint MAXM-U6SN+1_M (SOT23, 6-Leads, Body 2.9x1.625mm, Pitch 0.95mm, IPC Low Density)
pins: 1 ~{WARN} (oc) "Open-Drain Active-Low Warning Output. W\A\R\N\ goes low when the die temperature exceeds TWARN = TALARM - deltaTAW.", 2 GND (power) "Ground", 3 S1 (in) "Delta Temperature Select Input. Connect to VCC or GND to select the difference between TALARM and TWARN (Table 1 or see Electrical Characteristics).", 4 VCC (power) "Supply Voltage Input. Bypass VCC to GND with a 0.1uF ceramic capacitor.", 5 S0 (in) "Delta Temperature Select Input. Connect to VCC or GND to select the difference between TALARM and TWARN (Table 1 or see Electrical Characteristics).", 6 ~{ALARM} (oc) "Open-Drain Active-Low Alarm Output. A\L\A\R\M\ goes low when the die temperature exceeds the factory-set value of TALARM."

## MAX6505UTP065+
designator U?
Dual Trip Temperature Switch, -40 to 125 degC, 6-Pin SOT23 (U6SN+1), Pb-Free; Generic Part Number: MAX6505; PartNumber: MAX6505UTP065+; Functions: Temperature Switch/Temperature Comparator; Interface: Logic; DatasheetVersion: Rev. 1; PackageVersion: Rev. N, 08/2012; PackageReference: U6SN+1; PackageDescription: 6-Pin Small-Outline Transistor Package, Body 1.625 x 2.9 mm, Pitch 0.95 mm; Supplier 1: Mouser; Supplier Part Number 1: N/A; Mounting Technology: Surface Mount; Code_JEDEC: MO-178; ComponentLink1Description: Manufacturer URL; ComponentLink1URL: http://www.maximintegrated.com/; ComponentLink2Description: Datasheet; ComponentLink2URL: http://datasheets.maximintegrated.com/en/ds/MAX6505; ComponentLink3Description: Package Specification; ComponentLink3URL: http://pdfserv.maximintegrated.com/package_dwgs/21-0058.PDF
footprint MAXM-U6SN+1_N (SOT23, 6-Leads, Body 2.9x1.625mm, Pitch 0.95mm, IPC Medium Density)
footprint MAXM-U6SN+1_L (SOT23, 6-Leads, Body 2.9x1.625mm, Pitch 0.95mm, IPC High Density)
footprint MAXM-U6SN+1_M (SOT23, 6-Leads, Body 2.9x1.625mm, Pitch 0.95mm, IPC Low Density)
pins: 1 ~{WARN} (oc) "Open-Drain Active-Low Warning Output. W\A\R\N\ goes low when the die temperature exceeds TWARN = TALARM - deltaTAW.", 2 GND (power) "Ground", 3 S1 (in) "Delta Temperature Select Input. Connect to VCC or GND to select the difference between TALARM and TWARN (Table 1 or see Electrical Characteristics).", 4 VCC (power) "Supply Voltage Input. Bypass VCC to GND with a 0.1uF ceramic capacitor.", 5 S0 (in) "Delta Temperature Select Input. Connect to VCC or GND to select the difference between TALARM and TWARN (Table 1 or see Electrical Characteristics).", 6 ~{ALARM} (oc) "Open-Drain Active-Low Alarm Output. A\L\A\R\M\ goes low when the die temperature exceeds the factory-set value of TALARM."

## MAX6505UTP065+T
designator U?
Dual Trip Temperature Switch, -40 to 125 degC, 6-Pin SOT23 (U6SN+1), Pb-Free, Tape and Reel; Generic Part Number: MAX6505; PartNumber: MAX6505UTP065+T; Functions: Temperature Switch/Temperature Comparator; Interface: Logic; DatasheetVersion: Rev. 1; PackageVersion: Rev. N, 08/2012; PackageReference: U6SN+1; PackageDescription: 6-Pin Small-Outline Transistor Package, Body 1.625 x 2.9 mm, Pitch 0.95 mm; Supplier 1: Digi-Key; Supplier Part Number 1: MAX6505UTP065+T-ND; Supplier 2: Mouser; Supplier Part Number 2: 700-MAX6505UTP065T; Packing: Tape and Reel; Mounting Technology: Surface Mount; Code_JEDEC: MO-178; ComponentLink1Description: Manufacturer URL; ComponentLink1URL: http://www.maximintegrated.com/; ComponentLink2Description: Datasheet; ComponentLink2URL: http://datasheets.maximintegrated.com/en/ds/MAX6505; ComponentLink3Description: Package Specification; ComponentLink3URL: http://pdfserv.maximintegrated.com/package_dwgs/21-0058.PDF
footprint MAXM-U6SN+1_N (SOT23, 6-Leads, Body 2.9x1.625mm, Pitch 0.95mm, IPC Medium Density)
footprint MAXM-U6SN+1_L (SOT23, 6-Leads, Body 2.9x1.625mm, Pitch 0.95mm, IPC High Density)
footprint MAXM-U6SN+1_M (SOT23, 6-Leads, Body 2.9x1.625mm, Pitch 0.95mm, IPC Low Density)
pins: 1 ~{WARN} (oc) "Open-Drain Active-Low Warning Output. W\A\R\N\ goes low when the die temperature exceeds TWARN = TALARM - deltaTAW.", 2 GND (power) "Ground", 3 S1 (in) "Delta Temperature Select Input. Connect to VCC or GND to select the difference between TALARM and TWARN (Table 1 or see Electrical Characteristics).", 4 VCC (power) "Supply Voltage Input. Bypass VCC to GND with a 0.1uF ceramic capacitor.", 5 S0 (in) "Delta Temperature Select Input. Connect to VCC or GND to select the difference between TALARM and TWARN (Table 1 or see Electrical Characteristics).", 6 ~{ALARM} (oc) "Open-Drain Active-Low Alarm Output. A\L\A\R\M\ goes low when the die temperature exceeds the factory-set value of TALARM."

## MAX6505UTP070+T
designator U?
Dual Trip Temperature Switch, -40 to 125 degC, 6-Pin SOT23 (U6SN+1), Pb-Free, Tape and Reel; Generic Part Number: MAX6505; PartNumber: MAX6505UTP070+T; Functions: Temperature Switch/Temperature Comparator; Interface: Logic; DatasheetVersion: Rev. 1; PackageVersion: Rev. N, 08/2012; PackageReference: U6SN+1; PackageDescription: 6-Pin Small-Outline Transistor Package, Body 1.625 x 2.9 mm, Pitch 0.95 mm; Supplier 1: Digi-Key; Supplier Part Number 1: MAX6505UTP070+T-ND; Supplier 2: Mouser; Supplier Part Number 2: 700-MAX6505UTP070T; Packing: Tape and Reel; Mounting Technology: Surface Mount; Code_JEDEC: MO-178; ComponentLink1Description: Manufacturer URL; ComponentLink1URL: http://www.maximintegrated.com/; ComponentLink2Description: Datasheet; ComponentLink2URL: http://datasheets.maximintegrated.com/en/ds/MAX6505; ComponentLink3Description: Package Specification; ComponentLink3URL: http://pdfserv.maximintegrated.com/package_dwgs/21-0058.PDF
footprint MAXM-U6SN+1_N (SOT23, 6-Leads, Body 2.9x1.625mm, Pitch 0.95mm, IPC Medium Density)
footprint MAXM-U6SN+1_L (SOT23, 6-Leads, Body 2.9x1.625mm, Pitch 0.95mm, IPC High Density)
footprint MAXM-U6SN+1_M (SOT23, 6-Leads, Body 2.9x1.625mm, Pitch 0.95mm, IPC Low Density)
pins: 1 ~{WARN} (oc) "Open-Drain Active-Low Warning Output. W\A\R\N\ goes low when the die temperature exceeds TWARN = TALARM - deltaTAW.", 2 GND (power) "Ground", 3 S1 (in) "Delta Temperature Select Input. Connect to VCC or GND to select the difference between TALARM and TWARN (Table 1 or see Electrical Characteristics).", 4 VCC (power) "Supply Voltage Input. Bypass VCC to GND with a 0.1uF ceramic capacitor.", 5 S0 (in) "Delta Temperature Select Input. Connect to VCC or GND to select the difference between TALARM and TWARN (Table 1 or see Electrical Characteristics).", 6 ~{ALARM} (oc) "Open-Drain Active-Low Alarm Output. A\L\A\R\M\ goes low when the die temperature exceeds the factory-set value of TALARM."

## MAX6505UTP075+T
designator U?
Dual Trip Temperature Switch, -40 to 125 degC, 6-Pin SOT23 (U6SN+1), Pb-Free, Tape and Reel; Generic Part Number: MAX6505; PartNumber: MAX6505UTP075+T; Functions: Temperature Switch/Temperature Comparator; Interface: Logic; DatasheetVersion: Rev. 1; PackageVersion: Rev. N, 08/2012; PackageReference: U6SN+1; PackageDescription: 6-Pin Small-Outline Transistor Package, Body 1.625 x 2.9 mm, Pitch 0.95 mm; Supplier 1: Digi-Key; Supplier Part Number 1: MAX6505UTP075+T-ND; Supplier 2: Mouser; Supplier Part Number 2: 700-MAX6505UTP075T; Packing: Tape and Reel; Mounting Technology: Surface Mount; Code_JEDEC: MO-178; ComponentLink1Description: Manufacturer URL; ComponentLink1URL: http://www.maximintegrated.com/; ComponentLink2Description: Datasheet; ComponentLink2URL: http://datasheets.maximintegrated.com/en/ds/MAX6505; ComponentLink3Description: Package Specification; ComponentLink3URL: http://pdfserv.maximintegrated.com/package_dwgs/21-0058.PDF
footprint MAXM-U6SN+1_N (SOT23, 6-Leads, Body 2.9x1.625mm, Pitch 0.95mm, IPC Medium Density)
footprint MAXM-U6SN+1_L (SOT23, 6-Leads, Body 2.9x1.625mm, Pitch 0.95mm, IPC High Density)
footprint MAXM-U6SN+1_M (SOT23, 6-Leads, Body 2.9x1.625mm, Pitch 0.95mm, IPC Low Density)
pins: 1 ~{WARN} (oc) "Open-Drain Active-Low Warning Output. W\A\R\N\ goes low when the die temperature exceeds TWARN = TALARM - deltaTAW.", 2 GND (power) "Ground", 3 S1 (in) "Delta Temperature Select Input. Connect to VCC or GND to select the difference between TALARM and TWARN (Table 1 or see Electrical Characteristics).", 4 VCC (power) "Supply Voltage Input. Bypass VCC to GND with a 0.1uF ceramic capacitor.", 5 S0 (in) "Delta Temperature Select Input. Connect to VCC or GND to select the difference between TALARM and TWARN (Table 1 or see Electrical Characteristics).", 6 ~{ALARM} (oc) "Open-Drain Active-Low Alarm Output. A\L\A\R\M\ goes low when the die temperature exceeds the factory-set value of TALARM."

## MAX6505UTP080+T
designator U?
Dual Trip Temperature Switch, -40 to 125 degC, 6-Pin SOT23 (U6SN+1), Pb-Free, Tape and Reel; Generic Part Number: MAX6505; PartNumber: MAX6505UTP080+T; Functions: Temperature Switch/Temperature Comparator; Interface: Logic; DatasheetVersion: Rev. 1; PackageVersion: Rev. N, 08/2012; PackageReference: U6SN+1; PackageDescription: 6-Pin Small-Outline Transistor Package, Body 1.625 x 2.9 mm, Pitch 0.95 mm; Supplier 1: Digi-Key; Supplier Part Number 1: MAX6505UTP080+T-ND; Supplier 2: Mouser; Supplier Part Number 2: 700-MAX6505UTP080T; Packing: Tape and Reel; Mounting Technology: Surface Mount; Code_JEDEC: MO-178; ComponentLink1Description: Manufacturer URL; ComponentLink1URL: http://www.maximintegrated.com/; ComponentLink2Description: Datasheet; ComponentLink2URL: http://datasheets.maximintegrated.com/en/ds/MAX6505; ComponentLink3Description: Package Specification; ComponentLink3URL: http://pdfserv.maximintegrated.com/package_dwgs/21-0058.PDF
footprint MAXM-U6SN+1_N (SOT23, 6-Leads, Body 2.9x1.625mm, Pitch 0.95mm, IPC Medium Density)
footprint MAXM-U6SN+1_L (SOT23, 6-Leads, Body 2.9x1.625mm, Pitch 0.95mm, IPC High Density)
footprint MAXM-U6SN+1_M (SOT23, 6-Leads, Body 2.9x1.625mm, Pitch 0.95mm, IPC Low Density)
pins: 1 ~{WARN} (oc) "Open-Drain Active-Low Warning Output. W\A\R\N\ goes low when the die temperature exceeds TWARN = TALARM - deltaTAW.", 2 GND (power) "Ground", 3 S1 (in) "Delta Temperature Select Input. Connect to VCC or GND to select the difference between TALARM and TWARN (Table 1 or see Electrical Characteristics).", 4 VCC (power) "Supply Voltage Input. Bypass VCC to GND with a 0.1uF ceramic capacitor.", 5 S0 (in) "Delta Temperature Select Input. Connect to VCC or GND to select the difference between TALARM and TWARN (Table 1 or see Electrical Characteristics).", 6 ~{ALARM} (oc) "Open-Drain Active-Low Alarm Output. A\L\A\R\M\ goes low when the die temperature exceeds the factory-set value of TALARM."

## MAX6505UTP085+
designator U?
Dual Trip Temperature Switch, -40 to 125 degC, 6-Pin SOT23 (U6SN+1), Pb-Free; Generic Part Number: MAX6505; PartNumber: MAX6505UTP085+; Functions: Temperature Switch/Temperature Comparator; Interface: Logic; DatasheetVersion: Rev. 1; PackageVersion: Rev. N, 08/2012; PackageReference: U6SN+1; PackageDescription: 6-Pin Small-Outline Transistor Package, Body 1.625 x 2.9 mm, Pitch 0.95 mm; Supplier 1: Mouser; Supplier Part Number 1: N/A; Mounting Technology: Surface Mount; Code_JEDEC: MO-178; ComponentLink1Description: Manufacturer URL; ComponentLink1URL: http://www.maximintegrated.com/; ComponentLink2Description: Datasheet; ComponentLink2URL: http://datasheets.maximintegrated.com/en/ds/MAX6505; ComponentLink3Description: Package Specification; ComponentLink3URL: http://pdfserv.maximintegrated.com/package_dwgs/21-0058.PDF
footprint MAXM-U6SN+1_N (SOT23, 6-Leads, Body 2.9x1.625mm, Pitch 0.95mm, IPC Medium Density)
footprint MAXM-U6SN+1_L (SOT23, 6-Leads, Body 2.9x1.625mm, Pitch 0.95mm, IPC High Density)
footprint MAXM-U6SN+1_M (SOT23, 6-Leads, Body 2.9x1.625mm, Pitch 0.95mm, IPC Low Density)
pins: 1 ~{WARN} (oc) "Open-Drain Active-Low Warning Output. W\A\R\N\ goes low when the die temperature exceeds TWARN = TALARM - deltaTAW.", 2 GND (power) "Ground", 3 S1 (in) "Delta Temperature Select Input. Connect to VCC or GND to select the difference between TALARM and TWARN (Table 1 or see Electrical Characteristics).", 4 VCC (power) "Supply Voltage Input. Bypass VCC to GND with a 0.1uF ceramic capacitor.", 5 S0 (in) "Delta Temperature Select Input. Connect to VCC or GND to select the difference between TALARM and TWARN (Table 1 or see Electrical Characteristics).", 6 ~{ALARM} (oc) "Open-Drain Active-Low Alarm Output. A\L\A\R\M\ goes low when the die temperature exceeds the factory-set value of TALARM."